# Altium schematic symbol library kmilo17pet-NSC_Amplifier.SchLib: 1665 symbols (part 27 of 44)
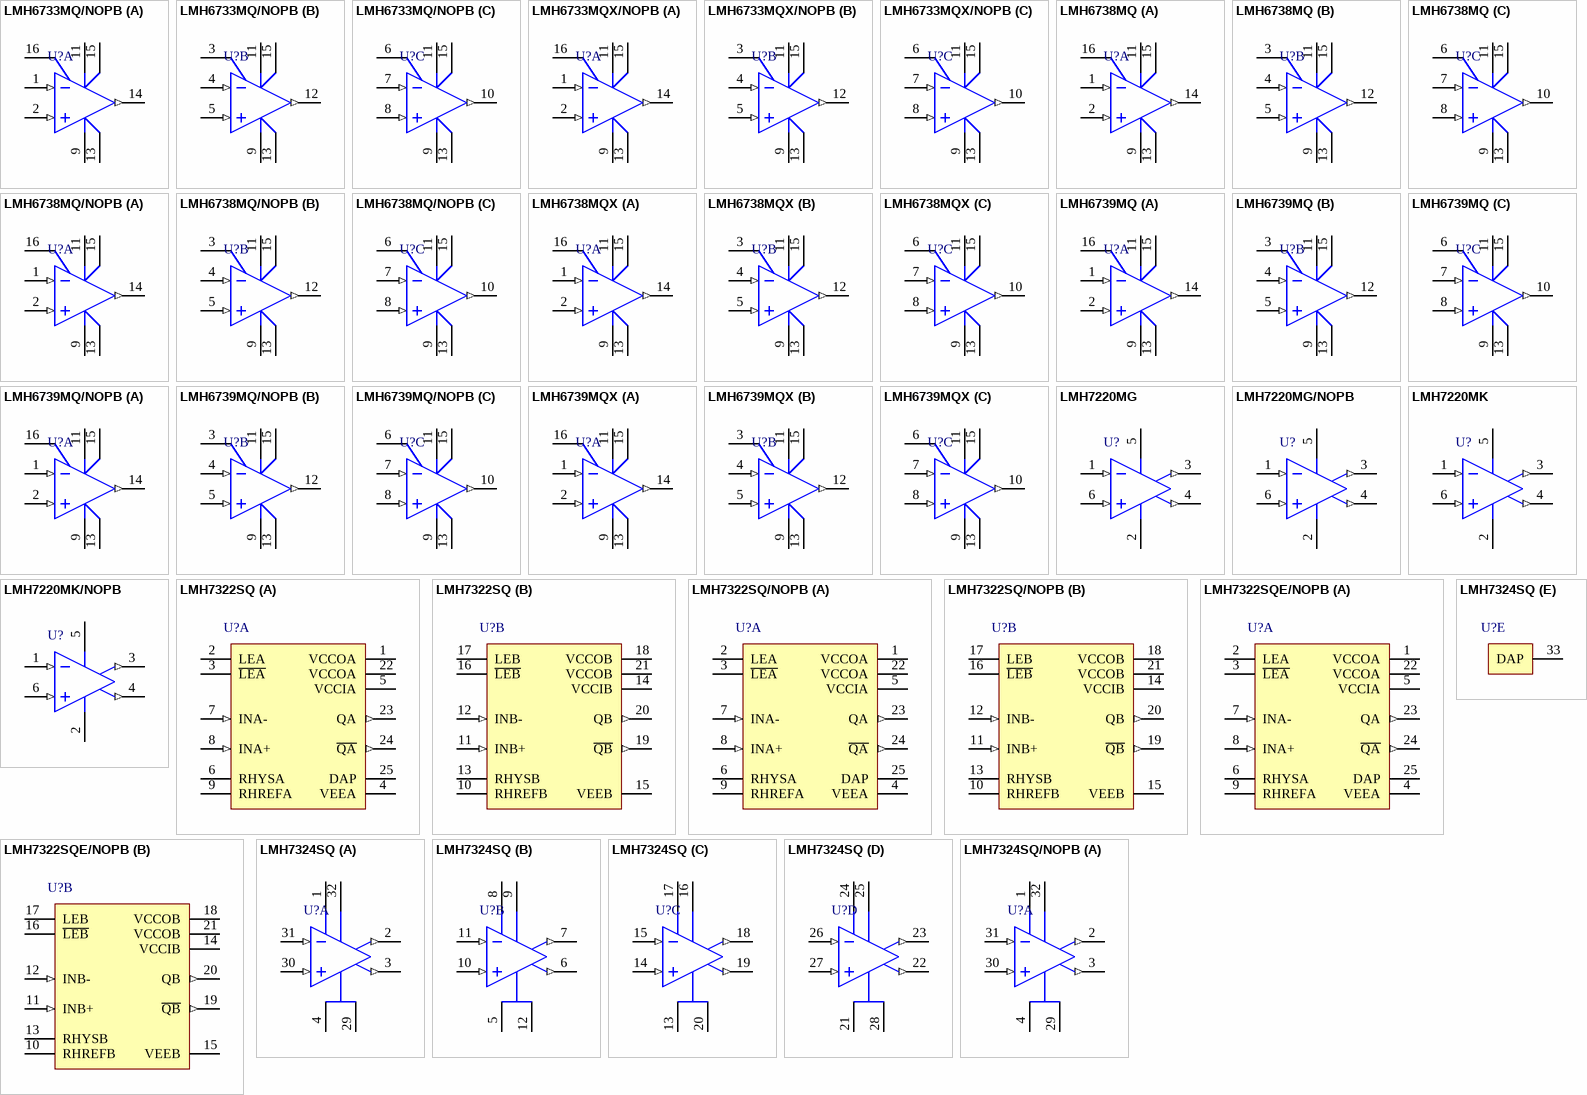
[diagram p110: symbols LMH6733MQ/NOPB to LMH7324SQ/NOPB]

## LMH7220MK/NOPB
designator U?
High Speed Comparator with LVDS Output, 6-pin Tiny SOT23, Pb-Free; PartNumber: LMH7220MK/NOPB; Manufacturer: National Semiconductor; PackageTopMarking: C29A*XTT; PowerWise: Y; CompType: Amplifiers; DatasheetVersion: May-2008; PackageVersion: revE, Nov-2008; PackageReference: MK06A; PackageDescription: Molded TSOT, 2.97 x 1.65 x 0.87mm Body, 6 Lead, 0.95mm Pitch; RoHS: Y; PinCount: 6; High-Reliability: Y; Code_JEDEC: MO-193-AA; Code_IPC: SOT26A-6; ComponentLink1Description: Manufacturer URL; ComponentLink1URL: http://www.national.com/; ComponentLink2Description: LMH7220 Datasheet; ComponentLink2URL: http://www.national.com/ds/LM/LMH7220.pdf; ComponentLink3Description: LMH7220 Web Page; ComponentLink3URL: http://www.national.com/pf/LM/LMH7220.html; ComponentLink4Description: MK06A Package Page; ComponentLink4URL: http://www.national.com/packaging/folders/mk06a.html
footprint MK06A_N (SOT23, 6-Leads, Body 3.0x1.7mm, Pitch 0.95mm, Lead Span 2.9mm, IPC Medium Density)
footprint MK06A_L (SOT23, 6-Leads, Body 3.0x1.7mm, Pitch 0.95mm, Lead Span 2.9mm, IPC High Density)
footprint MK06A_M (SOT23, 6-Leads, Body 3.0x1.7mm, Pitch 0.95mm, Lead Span 2.9mm, IPC Low Density)
pins: 1 IN- (in), 2 GND (power), 3 OUT ~{Q} (out), 4  OUT Q (out), 5 VCC (power), 6 IN+ (in)

## LMH7322SQ
designator U?
Dual 700 ps High Speed Comparator with RSPECL Outputs, 24-pin LLP; PartNumber: LMH7322SQ; Manufacturer: National Semiconductor; PackageTopMarking: NS*UZXYTT*L7322SQ; PowerWise: Y; CompType: Amplifiers; DatasheetVersion: May-2008; PackageVersion: revB, Aug-2003; PackageReference: SQA24A; PackageDescription: LLP, Plastic, Quad, 4 x 4 x 0.8mm Body, 24 Lead, 0.5mm Pitch, No Pullback; RoHS: Y; PinCount: 24; High-Reliability: Y; Code_JEDEC: MO-220-WGGD-6; ComponentLink1Description: Manufacturer URL; ComponentLink1URL: http://www.national.com/; ComponentLink2Description: LMH7322 Datasheet; ComponentLink2URL: http://www.national.com/ds/LM/LMH7322.pdf; ComponentLink3Description: LMH7322 Web Page; ComponentLink3URL: http://www.national.com/pf/LM/LMH7322.html; ComponentLink4Description: SQA24A Package Page; ComponentLink4URL: http://www.national.com/packaging/folders/sqa24a.html
footprint SQA24A (QFN, 24-Leads, Body 4x4mm, Pitch 0.5mm, Thermal Pad 2.7x2.7mm, NSC Recommended)
part A pins: 1 VCCOA (power), 2 LEA, 3 ~{LEA}, 4 VEEA (power), 5 VCCIA (power), 6 RHYSA, 7 INA- (in), 8 INA+ (in), 9 RHREFA, 22 VCCOA (power), 23 QA (out), 24 ~{QA} (out), 25 DAP (power)
part B pins: 10 RHREFB, 11 INB+ (in), 12 INB- (in), 13 RHYSB, 14 VCCIB (power), 15 VEEB (power), 16 ~{LEB}, 17 LEB, 18 VCCOB (power), 19 ~{QB} (out), 20 QB (out), 21 VCCOB (power)

## LMH7322SQ/NOPB
designator U?
Dual 700 ps High Speed Comparator with RSPECL Outputs, 24-pin LLP, Pb-Free; PartNumber: LMH7322SQ/NOPB; Manufacturer: National Semiconductor; PackageTopMarking: NS*UZXYTT*L7322SQ; PowerWise: Y; CompType: Amplifiers; DatasheetVersion: May-2008; PackageVersion: revB, Aug-2003; PackageReference: SQA24A; PackageDescription: LLP, Plastic, Quad, 4 x 4 x 0.8mm Body, 24 Lead, 0.5mm Pitch, No Pullback; RoHS: Y; PinCount: 24; High-Reliability: Y; Code_JEDEC: MO-220-WGGD-6; ComponentLink1Description: Manufacturer URL; ComponentLink1URL: http://www.national.com/; ComponentLink2Description: LMH7322 Datasheet; ComponentLink2URL: http://www.national.com/ds/LM/LMH7322.pdf; ComponentLink3Description: LMH7322 Web Page; ComponentLink3URL: http://www.national.com/pf/LM/LMH7322.html; ComponentLink4Description: SQA24A Package Page; ComponentLink4URL: http://www.national.com/packaging/folders/sqa24a.html
footprint SQA24A (QFN, 24-Leads, Body 4x4mm, Pitch 0.5mm, Thermal Pad 2.7x2.7mm, NSC Recommended)
part A pins: 1 VCCOA (power), 2 LEA, 3 ~{LEA}, 4 VEEA (power), 5 VCCIA (power), 6 RHYSA, 7 INA- (in), 8 INA+ (in), 9 RHREFA, 22 VCCOA (power), 23 QA (out), 24 ~{QA} (out), 25 DAP (power)
part B pins: 10 RHREFB, 11 INB+ (in), 12 INB- (in), 13 RHYSB, 14 VCCIB (power), 15 VEEB (power), 16 ~{LEB}, 17 LEB, 18 VCCOB (power), 19 ~{QB} (out), 20 QB (out), 21 VCCOB (power)

## LMH7322SQE/NOPB
designator U?
Dual 700 ps High Speed Comparator with RSPECL Outputs, 24-pin LLP, Pb-Free; PartNumber: LMH7322SQE/NOPB; Manufacturer: National Semiconductor; PackageTopMarking: NS*UZXYTT*L7322SQ; PowerWise: N; CompType: Amplifiers; High-Reliability: Y; DatasheetVersion: May-2008; PackageVersion: revB, Aug-2003; PackageReference: SQA24A; PackageDescription: LLP, Plastic, Quad, 4 x 4 x 0.8mm Body, 24 Lead, 0.5mm Pitch, No Pullback; RoHS: Y; PinCount: 24; Code_JEDEC: MO-220-WGGD-6; ComponentLink1Description: Manufacturer URL; ComponentLink1URL: http://www.national.com/; ComponentLink2Description: LMH7322 Datasheet; ComponentLink2URL: http://www.national.com/ds/LM/LMH7322.pdf; ComponentLink3Description: LMH7322 Web Page; ComponentLink3URL: http://www.national.com/pf/LM/LMH7322.html; ComponentLink4Description: SQA24A Package Page; ComponentLink4URL: http://www.national.com/packaging/folders/sqa24a.html
footprint SQA24A (QFN, 24-Leads, Body 4x4mm, Pitch 0.5mm, Thermal Pad 2.7x2.7mm, NSC Recommended)
part A pins: 1 VCCOA (power), 2 LEA, 3 ~{LEA}, 4 VEEA (power), 5 VCCIA (power), 6 RHYSA, 7 INA- (in), 8 INA+ (in), 9 RHREFA, 22 VCCOA (power), 23 QA (out), 24 ~{QA} (out), 25 DAP (power)
part B pins: 10 RHREFB, 11 INB+ (in), 12 INB- (in), 13 RHYSB, 14 VCCIB (power), 15 VEEB (power), 16 ~{LEB}, 17 LEB, 18 VCCOB (power), 19 ~{QB} (out), 20 QB (out), 21 VCCOB (power)

## LMH7324SQ
designator U?
Quad 700 ps High Speed Comparator with RSPECL Outputs, 32-pin LLP; PartNumber: LMH7324SQ; Manufacturer: National Semiconductor; PackageTopMarking: NS*UZXYTT*L7324SQ; PowerWise: Y; CompType: Amplifiers; DatasheetVersion: May-2008; PackageVersion: revB, Oct-2009; PackageReference: SQA32A; PackageDescription: LLP, Quad, 5 x 5 x 0.8mm, 32 Lead, 0.5mm Pitch, No Pullback 3.1 x 3.1 Exposed Pad; RoHS: Y; PinCount: 32; High-Reliability: Y; ComponentLink1Description: Manufacturer URL; ComponentLink1URL: http://www.national.com/; ComponentLink2Description: LMH7324 Datasheet; ComponentLink2URL: http://www.national.com/ds/LM/LMH7324.pdf; ComponentLink3Description: LMH7324 Web Page; ComponentLink3URL: http://www.national.com/pf/LM/LMH7324.html; ComponentLink4Description: SQA32A Package Page; ComponentLink4URL: http://www.national.com/packaging/folders/sqa32a.html
footprint SQA32A (QFN, 32-Leads, Body 5x5mm, Pitch 0.5mm, Thermal Pad 3.2x3.2mm, NSC Recommended)
part A pins: 1 VCCOA (power), 2 ~{QA} (out), 3 QA (out), 4 VEEA (power), 29 VEEA (power), 30 INA+ (in), 31 INA- (in), 32 VCCIA (power)
part B pins: 5 VEEB (power), 6 QB (out), 7 ~{QB} (out), 8 VCCOB (power), 9 VCCIB (power), 10 INB+ (in), 11 INB- (in), 12 VEEB (power)
part C pins: 13 VEEC (power), 14 INC+ (in), 15 INC- (in), 16 VCCIC (power), 17 VCCOC (power), 18 ~{QC} (out), 19 QC (out), 20 VEEC (power)
part D pins: 21 VEED (power), 22 QD (out), 23 ~{QD} (out), 24 VCCOD (power), 25 VCCID (power), 26 IND- (in), 27 IND+ (in), 28 VEED (power)
part E pins: 33 DAP

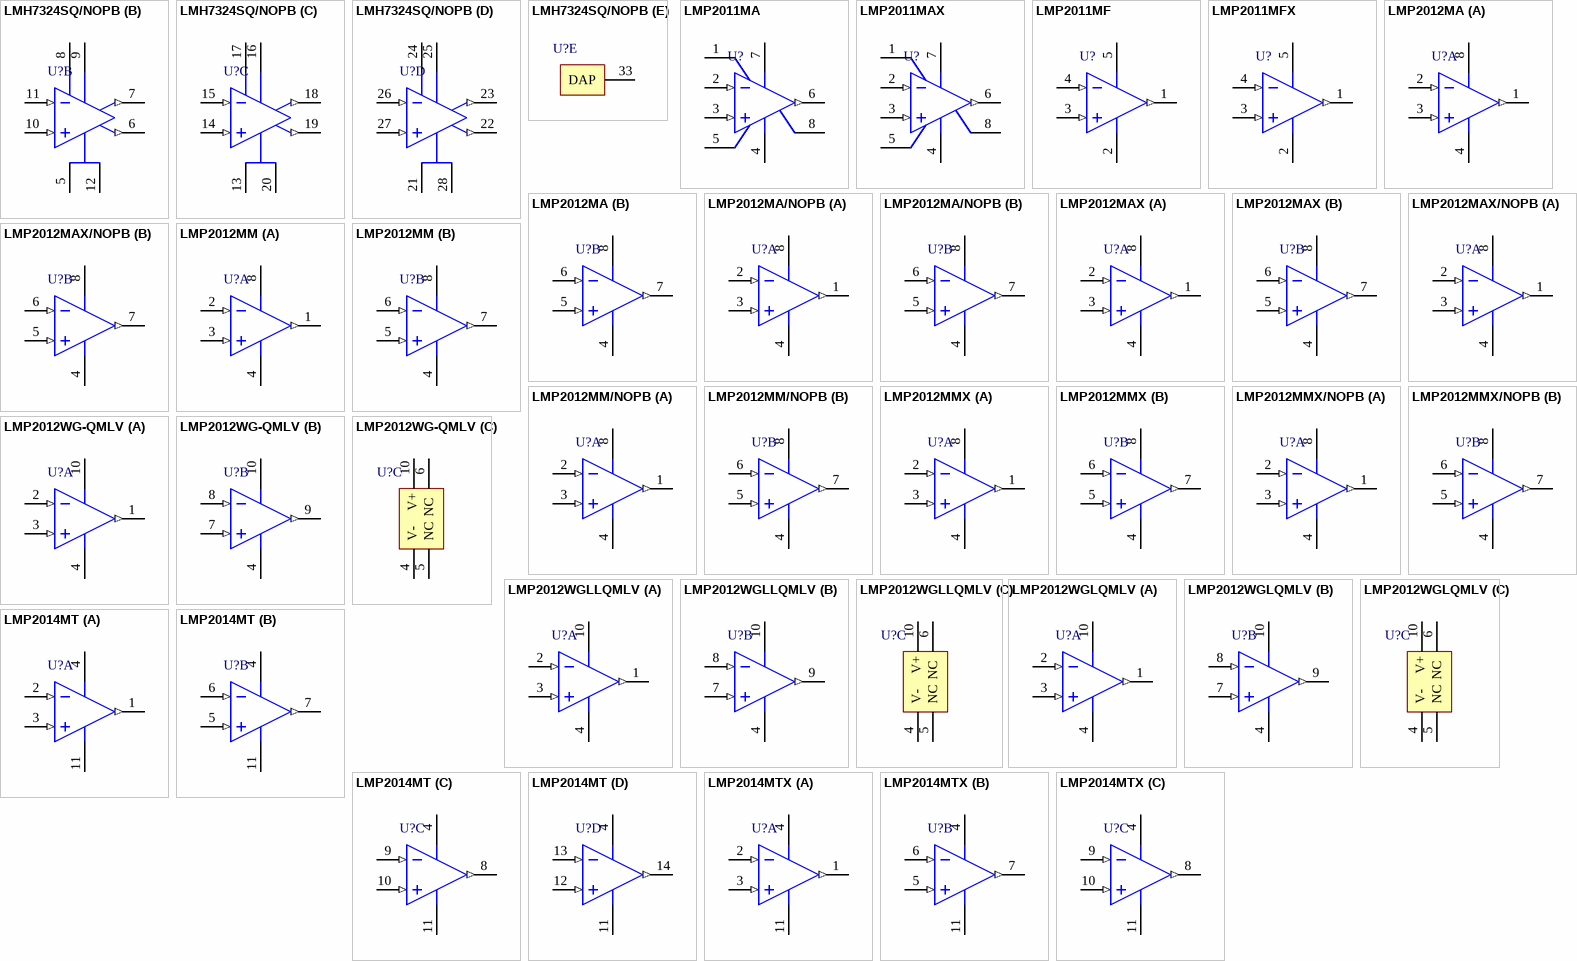
[diagram p54: symbols LMH7324SQ/NOPB to LMP2014MTX]

## LMH7324SQ/NOPB
designator U?
Quad 700 ps High Speed Comparator with RSPECL Outputs, 32-pin LLP, Pb-Free; PartNumber: LMH7324SQ/NOPB; Manufacturer: National Semiconductor; PackageTopMarking: NS*UZXYTT*L7324SQ; PowerWise: Y; CompType: Amplifiers; DatasheetVersion: May-2008; PackageVersion: revB, Oct-2009; PackageReference: SQA32A; PackageDescription: LLP, Quad, 5 x 5 x 0.8mm, 32 Lead, 0.5mm Pitch, No Pullback 3.1 x 3.1 Exposed Pad; RoHS: Y; PinCount: 32; High-Reliability: Y; ComponentLink1Description: Manufacturer URL; ComponentLink1URL: http://www.national.com/; ComponentLink2Description: LMH7324 Datasheet; ComponentLink2URL: http://www.national.com/ds/LM/LMH7324.pdf; ComponentLink3Description: LMH7324 Web Page; ComponentLink3URL: http://www.national.com/pf/LM/LMH7324.html; ComponentLink4Description: SQA32A Package Page; ComponentLink4URL: http://www.national.com/packaging/folders/sqa32a.html
footprint SQA32A (QFN, 32-Leads, Body 5x5mm, Pitch 0.5mm, Thermal Pad 3.2x3.2mm, NSC Recommended)
part A pins: 1 VCCOA (power), 2 ~{QA} (out), 3 QA (out), 4 VEEA (power), 29 VEEA (power), 30 INA+ (in), 31 INA- (in), 32 VCCIA (power)
part B pins: 5 VEEB (power), 6 QB (out), 7 ~{QB} (out), 8 VCCOB (power), 9 VCCIB (power), 10 INB+ (in), 11 INB- (in), 12 VEEB (power)
part C pins: 13 VEEC (power), 14 INC+ (in), 15 INC- (in), 16 VCCIC (power), 17 VCCOC (power), 18 ~{QC} (out), 19 QC (out), 20 VEEC (power)
part D pins: 21 VEED (power), 22 QD (out), 23 ~{QD} (out), 24 VCCOD (power), 25 VCCID (power), 26 IND- (in), 27 IND+ (in), 28 VEED (power)
part E pins: 33 DAP

## LMP2011MA
designator U?
Single, High Precision, Rail-to-Rail Output Operational Amplifier, 8-pin Narrow SOIC; PartNumber: LMP2011MA; Manufacturer: National Semiconductor; PackageTopMarking: NSZXTT*LMP20*11MA; PowerWise: N; CompType: Amplifiers; High-Reliability: Y; DatasheetVersion: Jul-2008; PackageVersion: revM, May-2009; PackageReference: M08A; PackageDescription: SOIC Narrow, 4.9 x 3.9 x 1.45mm, 8 Lead, 1.27mm Pitch; RoHS: N; PinCount: 8; Code_JEDEC: MS-012-AA; Code_IPC: SOIC127P600-8; ComponentLink1Description: Manufacturer URL; ComponentLink1URL: http://www.national.com/; ComponentLink2Description: LMP2011 Datasheet; ComponentLink2URL: http://www.national.com/ds/LM/LMP2011.pdf; ComponentLink3Description: LMP2011 Web Page; ComponentLink3URL: http://www.national.com/pf/LM/LMP2011.html; ComponentLink4Description: M08A Package Page; ComponentLink4URL: http://www.national.com/packaging/folders/m08a.html
footprint M08A_N (SOIC, 8-Leads, Body 4.9x3.9mm, Pitch 1.27mm, IPC Medium Density)
footprint M08A_L (SOIC, 8-Leads, Body 4.9x3.9mm, Pitch 1.27mm, IPC High Density)
footprint M08A_M (SOIC, 8-Leads, Body 4.9x3.9mm, Pitch 1.27mm, IPC Low Density)
pins: 1 NC, 2 IN- (in), 3 IN+ (in), 4 V- (power), 5 NC, 6 OUT (out), 7 V+ (power), 8 NC

## LMP2011MAX
designator U?
Single, High Precision, Rail-to-Rail Output Operational Amplifier, 8-pin Narrow SOIC; PartNumber: LMP2011MAX; Manufacturer: National Semiconductor; PackageTopMarking: NSZXTT*LMP20*11MA; PowerWise: N; CompType: Amplifiers; High-Reliability: Y; DatasheetVersion: Jul-2008; PackageVersion: revM, May-2009; PackageReference: M08A; PackageDescription: SOIC Narrow, 4.9 x 3.9 x 1.45mm, 8 Lead, 1.27mm Pitch; RoHS: N; PinCount: 8; Code_JEDEC: MS-012-AA; Code_IPC: SOIC127P600-8; ComponentLink1Description: Manufacturer URL; ComponentLink1URL: http://www.national.com/; ComponentLink2Description: LMP2011 Datasheet; ComponentLink2URL: http://www.national.com/ds/LM/LMP2011.pdf; ComponentLink3Description: LMP2011 Web Page; ComponentLink3URL: http://www.national.com/pf/LM/LMP2011.html; ComponentLink4Description: M08A Package Page; ComponentLink4URL: http://www.national.com/packaging/folders/m08a.html
footprint M08A_N (SOIC, 8-Leads, Body 4.9x3.9mm, Pitch 1.27mm, IPC Medium Density)
footprint M08A_L (SOIC, 8-Leads, Body 4.9x3.9mm, Pitch 1.27mm, IPC High Density)
footprint M08A_M (SOIC, 8-Leads, Body 4.9x3.9mm, Pitch 1.27mm, IPC Low Density)
pins: 1 NC, 2 IN- (in), 3 IN+ (in), 4 V- (power), 5 NC, 6 OUT (out), 7 V+ (power), 8 NC

## LMP2011MF
designator U?
Single, High Precision, Rail-to-Rail Output Operational Amplifier, 5-pin SOT-23; PartNumber: LMP2011MF; Manufacturer: National Semiconductor; PackageTopMarking: AN1A*XTT; PowerWise: N; CompType: Amplifiers; High-Reliability: Y; DatasheetVersion: Jul-2008; PackageVersion: revD, Aug-2008; PackageReference: MF05A; PackageDescription: Molded SOT-23, .115 x .063 x .040 in Body, 5 Lead, .0375 in Pitch; RoHS: N; PinCount: 5; ComponentLink1Description: Manufacturer URL; ComponentLink1URL: http://www.national.com/; ComponentLink2Description: LMP2011 Datasheet; ComponentLink2URL: http://www.national.com/ds/LM/LMP2011.pdf; ComponentLink3Description: LMP2011 Web Page; ComponentLink3URL: http://www.national.com/pf/LM/LMP2011.html; ComponentLink4Description: MF05A Package Page; ComponentLink4URL: http://www.national.com/packaging/folders/mf05a.html
footprint MF05A_N (SOT23, 5-Leads, Body 2.9x1.6mm, Pitch 0.95mm, Lead Span 2.8mm, IPC Medium Density)
footprint MF05A_L (SOT23, 5-Leads, Body 2.9x1.6mm, Pitch 0.95mm, Lead Span 2.8mm, IPC High Density)
footprint MF05A_M (SOT23, 5-Leads, Body 2.9x1.6mm, Pitch 0.95mm, Lead Span 2.8mm, IPC Low Density)
pins: 1 OUT (out), 2 V- (power), 3 IN+ (in), 4 IN- (in), 5 V+ (power)

## LMP2011MFX
designator U?
Single, High Precision, Rail-to-Rail Output Operational Amplifier, 5-pin SOT-23; PartNumber: LMP2011MFX; Manufacturer: National Semiconductor; PackageTopMarking: AN1A*XTT; PowerWise: N; CompType: Amplifiers; High-Reliability: Y; DatasheetVersion: Jul-2008; PackageVersion: revD, Aug-2008; PackageReference: MF05A; PackageDescription: Molded SOT-23, .115 x .063 x .040 in Body, 5 Lead, .0375 in Pitch; RoHS: N; PinCount: 5; ComponentLink1Description: Manufacturer URL; ComponentLink1URL: http://www.national.com/; ComponentLink2Description: LMP2011 Datasheet; ComponentLink2URL: http://www.national.com/ds/LM/LMP2011.pdf; ComponentLink3Description: LMP2011 Web Page; ComponentLink3URL: http://www.national.com/pf/LM/LMP2011.html; ComponentLink4Description: MF05A Package Page; ComponentLink4URL: http://www.national.com/packaging/folders/mf05a.html
footprint MF05A_N (SOT23, 5-Leads, Body 2.9x1.6mm, Pitch 0.95mm, Lead Span 2.8mm, IPC Medium Density)
footprint MF05A_L (SOT23, 5-Leads, Body 2.9x1.6mm, Pitch 0.95mm, Lead Span 2.8mm, IPC High Density)
footprint MF05A_M (SOT23, 5-Leads, Body 2.9x1.6mm, Pitch 0.95mm, Lead Span 2.8mm, IPC Low Density)
pins: 1 OUT (out), 2 V- (power), 3 IN+ (in), 4 IN- (in), 5 V+ (power)

## LMP2012MA
designator U?
Dual, High Precision, Rail-to-Rail Output Operational Amplifier, 8-pin Narrow SOIC; PartNumber: LMP2012MA; Manufacturer: National Semiconductor; PackageTopMarking: NSZXTT*LMP20*12MA; PowerWise: N; CompType: Amplifiers; High-Reliability: Y; DatasheetVersion: Jul-2008; PackageVersion: revM, May-2009; PackageReference: M08A; PackageDescription: SOIC Narrow, 4.9 x 3.9 x 1.45mm, 8 Lead, 1.27mm Pitch; RoHS: N; PinCount: 8; Code_JEDEC: MS-012-AA; Code_IPC: SOIC127P600-8; ComponentLink1Description: Manufacturer URL; ComponentLink1URL: http://www.national.com/; ComponentLink2Description: LMP2012 Datasheet; ComponentLink2URL: http://www.national.com/ds/LM/LMP2012.pdf; ComponentLink3Description: LMP2012 Web Page; ComponentLink3URL: http://www.national.com/pf/LM/LMP2012.html; ComponentLink4Description: M08A Package Page; ComponentLink4URL: http://www.national.com/packaging/folders/m08a.html
footprint M08A_N (SOIC, 8-Leads, Body 4.9x3.9mm, Pitch 1.27mm, IPC Medium Density)
footprint M08A_L (SOIC, 8-Leads, Body 4.9x3.9mm, Pitch 1.27mm, IPC High Density)
footprint M08A_M (SOIC, 8-Leads, Body 4.9x3.9mm, Pitch 1.27mm, IPC Low Density)
pins on every part: 4 V- (power), 8 V+ (power)
part A pins: 1 OUT1 (out), 2 IN1- (in), 3 IN1+ (in)
part B pins: 5 IN2+ (in), 6 IN2- (in), 7 OUT2 (out)

## LMP2012MA/NOPB
designator U?
Dual, High Precision, Rail-to-Rail Output Operational Amplifier, 8-pin Narrow SOIC, Pb-Free; PartNumber: LMP2012MA/NOPB; Manufacturer: National Semiconductor; PackageTopMarking: NSZXTT*LMP20*12MA; PowerWise: N; CompType: Amplifiers; High-Reliability: Y; DatasheetVersion: Jul-2008; PackageVersion: revM, May-2009; PackageReference: M08A; PackageDescription: SOIC Narrow, 4.9 x 3.9 x 1.45mm, 8 Lead, 1.27mm Pitch; RoHS: Y; PinCount: 8; Code_JEDEC: MS-012-AA; Code_IPC: SOIC127P600-8; ComponentLink1Description: Manufacturer URL; ComponentLink1URL: http://www.national.com/; ComponentLink2Description: LMP2012 Datasheet; ComponentLink2URL: http://www.national.com/ds/LM/LMP2012.pdf; ComponentLink3Description: LMP2012 Web Page; ComponentLink3URL: http://www.national.com/pf/LM/LMP2012.html; ComponentLink4Description: M08A Package Page; ComponentLink4URL: http://www.national.com/packaging/folders/m08a.html
footprint M08A_N (SOIC, 8-Leads, Body 4.9x3.9mm, Pitch 1.27mm, IPC Medium Density)
footprint M08A_L (SOIC, 8-Leads, Body 4.9x3.9mm, Pitch 1.27mm, IPC High Density)
footprint M08A_M (SOIC, 8-Leads, Body 4.9x3.9mm, Pitch 1.27mm, IPC Low Density)
pins on every part: 4 V- (power), 8 V+ (power)
part A pins: 1 OUT1 (out), 2 IN1- (in), 3 IN1+ (in)
part B pins: 5 IN2+ (in), 6 IN2- (in), 7 OUT2 (out)

## LMP2012MAX
designator U?
Dual, High Precision, Rail-to-Rail Output Operational Amplifier, 8-pin Narrow SOIC; PartNumber: LMP2012MAX; Manufacturer: National Semiconductor; PackageTopMarking: NSZXTT*LMP20*12MA; PowerWise: N; CompType: Amplifiers; High-Reliability: Y; DatasheetVersion: Jul-2008; PackageVersion: revM, May-2009; PackageReference: M08A; PackageDescription: SOIC Narrow, 4.9 x 3.9 x 1.45mm, 8 Lead, 1.27mm Pitch; RoHS: N; PinCount: 8; Code_JEDEC: MS-012-AA; Code_IPC: SOIC127P600-8; ComponentLink1Description: Manufacturer URL; ComponentLink1URL: http://www.national.com/; ComponentLink2Description: LMP2012 Datasheet; ComponentLink2URL: http://www.national.com/ds/LM/LMP2012.pdf; ComponentLink3Description: LMP2012 Web Page; ComponentLink3URL: http://www.national.com/pf/LM/LMP2012.html; ComponentLink4Description: M08A Package Page; ComponentLink4URL: http://www.national.com/packaging/folders/m08a.html
footprint M08A_N (SOIC, 8-Leads, Body 4.9x3.9mm, Pitch 1.27mm, IPC Medium Density)
footprint M08A_L (SOIC, 8-Leads, Body 4.9x3.9mm, Pitch 1.27mm, IPC High Density)
footprint M08A_M (SOIC, 8-Leads, Body 4.9x3.9mm, Pitch 1.27mm, IPC Low Density)
pins on every part: 4 V- (power), 8 V+ (power)
part A pins: 1 OUT1 (out), 2 IN1- (in), 3 IN1+ (in)
part B pins: 5 IN2+ (in), 6 IN2- (in), 7 OUT2 (out)

## LMP2012MAX/NOPB
designator U?
Dual, High Precision, Rail-to-Rail Output Operational Amplifier, 8-pin Narrow SOIC, Pb-Free; PartNumber: LMP2012MAX/NOPB; Manufacturer: National Semiconductor; PackageTopMarking: NSZXTT*LMP20*12MA; PowerWise: N; CompType: Amplifiers; High-Reliability: Y; DatasheetVersion: Jul-2008; PackageVersion: revM, May-2009; PackageReference: M08A; PackageDescription: SOIC Narrow, 4.9 x 3.9 x 1.45mm, 8 Lead, 1.27mm Pitch; RoHS: Y; PinCount: 8; Code_JEDEC: MS-012-AA; Code_IPC: SOIC127P600-8; ComponentLink1Description: Manufacturer URL; ComponentLink1URL: http://www.national.com/; ComponentLink2Description: LMP2012 Datasheet; ComponentLink2URL: http://www.national.com/ds/LM/LMP2012.pdf; ComponentLink3Description: LMP2012 Web Page; ComponentLink3URL: http://www.national.com/pf/LM/LMP2012.html; ComponentLink4Description: M08A Package Page; ComponentLink4URL: http://www.national.com/packaging/folders/m08a.html
footprint M08A_N (SOIC, 8-Leads, Body 4.9x3.9mm, Pitch 1.27mm, IPC Medium Density)
footprint M08A_L (SOIC, 8-Leads, Body 4.9x3.9mm, Pitch 1.27mm, IPC High Density)
footprint M08A_M (SOIC, 8-Leads, Body 4.9x3.9mm, Pitch 1.27mm, IPC Low Density)
pins on every part: 4 V- (power), 8 V+ (power)
part A pins: 1 OUT1 (out), 2 IN1- (in), 3 IN1+ (in)
part B pins: 5 IN2+ (in), 6 IN2- (in), 7 OUT2 (out)

## LMP2012MM
designator U?
Dual, High Precision, Rail-to-Rail Output Operational Amplifier, 8-pin Mini SOIC; PartNumber: LMP2012MM; Manufacturer: National Semiconductor; PackageTopMarking: ZXTT*AP1A; PowerWise: N; CompType: Amplifiers; High-Reliability: Y; DatasheetVersion: Jul-2008; PackageVersion: revF, Apr-2008; PackageReference: MUA08A; PackageDescription: MINI SOIC, .118 x .118 x .034in, 8 Lead, .0256in Pitch; RoHS: N; PinCount: 8; Code_JEDEC: MO-187-AA; ComponentLink1Description: Manufacturer URL; ComponentLink1URL: http://www.national.com/; ComponentLink2Description: LMP2012 Datasheet; ComponentLink2URL: http://www.national.com/ds/LM/LMP2012.pdf; ComponentLink3Description: LMP2012 Web Page; ComponentLink3URL: http://www.national.com/pf/LM/LMP2012.html; ComponentLink4Description: MUA08A Package Page; ComponentLink4URL: http://www.national.com/packaging/folders/mua08a.html
footprint MUA08A_N (TSOP, 8-Leads, Body 3x3mm, Pitch 0.65mm, IPC Medium Density)
footprint MUA08A_L (TSOP, 8-Leads, Body 3x3mm, Pitch 0.65mm, IPC High Density)
footprint MUA08A_M (TSOP, 8-Leads, Body 3x3mm, Pitch 0.65mm, IPC Low Density)
pins on every part: 4 V- (power), 8 V+ (power)
part A pins: 1 OUTA (out), 2 INA- (in), 3 INA+ (in)
part B pins: 5 INB+ (in), 6 INB- (in), 7 OUTB (out)

## LMP2012MM/NOPB
designator U?
Dual, High Precision, Rail-to-Rail Output Operational Amplifier, 8-pin Mini SOIC, Pb-Free; PartNumber: LMP2012MM/NOPB; Manufacturer: National Semiconductor; PackageTopMarking: ZXTT*AP1A; PowerWise: N; CompType: Amplifiers; High-Reliability: Y; DatasheetVersion: Jul-2008; PackageVersion: revF, Apr-2008; PackageReference: MUA08A; PackageDescription: MINI SOIC, .118 x .118 x .034in, 8 Lead, .0256in Pitch; RoHS: Y; PinCount: 8; Code_JEDEC: MO-187-AA; ComponentLink1Description: Manufacturer URL; ComponentLink1URL: http://www.national.com/; ComponentLink2Description: LMP2012 Datasheet; ComponentLink2URL: http://www.national.com/ds/LM/LMP2012.pdf; ComponentLink3Description: LMP2012 Web Page; ComponentLink3URL: http://www.national.com/pf/LM/LMP2012.html; ComponentLink4Description: MUA08A Package Page; ComponentLink4URL: http://www.national.com/packaging/folders/mua08a.html
footprint MUA08A_N (TSOP, 8-Leads, Body 3x3mm, Pitch 0.65mm, IPC Medium Density)
footprint MUA08A_L (TSOP, 8-Leads, Body 3x3mm, Pitch 0.65mm, IPC High Density)
footprint MUA08A_M (TSOP, 8-Leads, Body 3x3mm, Pitch 0.65mm, IPC Low Density)
pins on every part: 4 V- (power), 8 V+ (power)
part A pins: 1 OUTA (out), 2 INA- (in), 3 INA+ (in)
part B pins: 5 INB+ (in), 6 INB- (in), 7 OUTB (out)

## LMP2012MMX
designator U?
Dual, High Precision, Rail-to-Rail Output Operational Amplifier, 8-pin Mini SOIC; PartNumber: LMP2012MMX; Manufacturer: National Semiconductor; PackageTopMarking: ZXTT*AP1A; PowerWise: N; CompType: Amplifiers; High-Reliability: Y; DatasheetVersion: Jul-2008; PackageVersion: revF, Apr-2008; PackageReference: MUA08A; PackageDescription: MINI SOIC, .118 x .118 x .034in, 8 Lead, .0256in Pitch; RoHS: N; PinCount: 8; Code_JEDEC: MO-187-AA; ComponentLink1Description: Manufacturer URL; ComponentLink1URL: http://www.national.com/; ComponentLink2Description: LMP2012 Datasheet; ComponentLink2URL: http://www.national.com/ds/LM/LMP2012.pdf; ComponentLink3Description: LMP2012 Web Page; ComponentLink3URL: http://www.national.com/pf/LM/LMP2012.html; ComponentLink4Description: MUA08A Package Page; ComponentLink4URL: http://www.national.com/packaging/folders/mua08a.html
footprint MUA08A_N (TSOP, 8-Leads, Body 3x3mm, Pitch 0.65mm, IPC Medium Density)
footprint MUA08A_L (TSOP, 8-Leads, Body 3x3mm, Pitch 0.65mm, IPC High Density)
footprint MUA08A_M (TSOP, 8-Leads, Body 3x3mm, Pitch 0.65mm, IPC Low Density)
pins on every part: 4 V- (power), 8 V+ (power)
part A pins: 1 OUTA (out), 2 INA- (in), 3 INA+ (in)
part B pins: 5 INB+ (in), 6 INB- (in), 7 OUTB (out)

## LMP2012MMX/NOPB
designator U?
Dual, High Precision, Rail-to-Rail Output Operational Amplifier, 8-pin Mini SOIC, Pb-Free; PartNumber: LMP2012MMX/NOPB; Manufacturer: National Semiconductor; PackageTopMarking: ZXTT*AP1A; PowerWise: N; CompType: Amplifiers; High-Reliability: Y; DatasheetVersion: Jul-2008; PackageVersion: revF, Apr-2008; PackageReference: MUA08A; PackageDescription: MINI SOIC, .118 x .118 x .034in, 8 Lead, .0256in Pitch; RoHS: Y; PinCount: 8; Code_JEDEC: MO-187-AA; ComponentLink1Description: Manufacturer URL; ComponentLink1URL: http://www.national.com/; ComponentLink2Description: LMP2012 Datasheet; ComponentLink2URL: http://www.national.com/ds/LM/LMP2012.pdf; ComponentLink3Description: LMP2012 Web Page; ComponentLink3URL: http://www.national.com/pf/LM/LMP2012.html; ComponentLink4Description: MUA08A Package Page; ComponentLink4URL: http://www.national.com/packaging/folders/mua08a.html
footprint MUA08A_N (TSOP, 8-Leads, Body 3x3mm, Pitch 0.65mm, IPC Medium Density)
footprint MUA08A_L (TSOP, 8-Leads, Body 3x3mm, Pitch 0.65mm, IPC High Density)
footprint MUA08A_M (TSOP, 8-Leads, Body 3x3mm, Pitch 0.65mm, IPC Low Density)
pins on every part: 4 V- (power), 8 V+ (power)
part A pins: 1 OUTA (out), 2 INA- (in), 3 INA+ (in)
part B pins: 5 INB+ (in), 6 INB- (in), 7 OUTB (out)

## LMP2012WG-QMLV
designator U?
Dual, High Precision, Rail-to-Rail Output Operational Amplifier, 10-pin CerPACK; PartNumber: LMP2012WG-QMLV; Manufacturer: National Semiconductor; PackageTopMarking: NSZSSXXYY*A LMP2012*WG-QV Q*5962-06206*01VZA; PowerWise: N; CompType: Amplifiers; High-Reliability: Y; DatasheetVersion: Jun-2010; PackageVersion: revF, Oct-2008; PackageReference: WG10A; PackageDescription: Cerpack, .270 x .241 x .070in, 10 Lead, .050in Pitch, Gull Wing; RoHS: N; PinCount: 10; ComponentLink1Description: Manufacturer URL; ComponentLink1URL: http://www.national.com/; ComponentLink2Description: LMP2012QML Datasheet; ComponentLink2URL: http://www.national.com/ds/LM/LMP2012QML.pdf; ComponentLink3Description: LMP2012 Web Page; ComponentLink3URL: http://www.national.com/pf/LM/LMP2012.html; ComponentLink4Description: WG10A Package Page; ComponentLink4URL: http://www.national.com/packaging/folders/wg10a.html
footprint WG10A_N (CERPACK, 10-Leads, Body 6.9x6.3mm, Pitch 1.27mm, IPC Medium Density)
footprint WG10A_L (CERPACK, 10-Leads, Body 6.9x6.3mm, Pitch 1.27mm, IPC High Density)
footprint WG10A_M (CERPACK, 10-Leads, Body 6.9x6.3mm, Pitch 1.27mm, IPC Low Density)
pins on every part: 4 V- (power), 10 V+ (power)
part A pins: 1 OUTA (out), 2 INA- (in), 3 INA+ (in)
part B pins: 7 INB+ (in), 8 INB- (in), 9 OUTB (out)
part C pins: 5 NC, 6 NC

## LMP2012WGLLQMLV
designator U?
Dual, High Precision, Rail-to-Rail Output Operational Amplifier, 10-pin CERPACK; PartNumber: LMP2012WGLLQMLV; Manufacturer: National Semiconductor; PackageTopMarking: NSZSSXXYY*A LMP2012*WGLLQV Q*5962L06206*02VZA; PowerWise: N; CompType: Amplifiers; High-Reliability: Y; DatasheetVersion: Jun-2010; PackageVersion: revF, Oct-2008; PackageReference: WG10A; PackageDescription: Cerpack, .270 x .241 x .070in, 10 Lead, .050in Pitch, Gull Wing; RoHS: N; PinCount: 10; ComponentLink1Description: Manufacturer URL; ComponentLink1URL: http://www.national.com/; ComponentLink2Description: LMP2012 Datasheet; ComponentLink2URL: http://www.national.com/ds/LM/LMP2012QML.pdf; ComponentLink3Description: LMP2012 Web Page; ComponentLink3URL: http://www.national.com/pf/LM/LMP2012.html; ComponentLink4Description: WG10A Package Page; ComponentLink4URL: http://www.national.com/packaging/folders/wg10a.html
footprint WG10A_N (CERPACK, 10-Leads, Body 6.9x6.3mm, Pitch 1.27mm, IPC Medium Density)
footprint WG10A_L (CERPACK, 10-Leads, Body 6.9x6.3mm, Pitch 1.27mm, IPC High Density)
footprint WG10A_M (CERPACK, 10-Leads, Body 6.9x6.3mm, Pitch 1.27mm, IPC Low Density)
pins on every part: 4 V- (power), 10 V+ (power)
part A pins: 1 OUTA (out), 2 INA- (in), 3 INA+ (in)
part B pins: 7 INB+ (in), 8 INB- (in), 9 OUTB (out)
part C pins: 5 NC, 6 NC

## LMP2012WGLQMLV
designator U?
Dual, High Precision, Rail-to-Rail Output Operational Amplifier, 10-pin CerPACK; PartNumber: LMP2012WGLQMLV; Manufacturer: National Semiconductor; PackageTopMarking: NSZSSXXYY*A LMP2012*WGLQV Q*5962L06206*01VZA; PowerWise: N; CompType: Amplifiers; High-Reliability: Y; DatasheetVersion: Jun-2010; PackageVersion: revF, Oct-2008; PackageReference: WG10A; PackageDescription: Cerpack, .270 x .241 x .070in, 10 Lead, .050in Pitch, Gull Wing; RoHS: N; PinCount: 10; ComponentLink1Description: Manufacturer URL; ComponentLink1URL: http://www.national.com/; ComponentLink2Description: LMP2012 Datasheet; ComponentLink2URL: http://www.national.com/ds/LM/LMP2012QML.pdf; ComponentLink3Description: LMP2012 Web Page; ComponentLink3URL: http://www.national.com/pf/LM/LMP2012.html; ComponentLink4Description: WG10A Package Page; ComponentLink4URL: http://www.national.com/packaging/folders/wg10a.html
footprint WG10A_N (CERPACK, 10-Leads, Body 6.9x6.3mm, Pitch 1.27mm, IPC Medium Density)
footprint WG10A_L (CERPACK, 10-Leads, Body 6.9x6.3mm, Pitch 1.27mm, IPC High Density)
footprint WG10A_M (CERPACK, 10-Leads, Body 6.9x6.3mm, Pitch 1.27mm, IPC Low Density)
pins on every part: 4 V- (power), 10 V+ (power)
part A pins: 1 OUTA (out), 2 INA- (in), 3 INA+ (in)
part B pins: 7 INB+ (in), 8 INB- (in), 9 OUTB (out)
part C pins: 5 NC, 6 NC

## LMP2014MT
designator U?
Quad, High Precision, Rail-to-Rail Output Operational Amplifier, 14-pin TSSOP; PartNumber: LMP2014MT; Manufacturer: National Semiconductor; PackageTopMarking: NSUZXYTT*LMP20*14MT; PowerWise: N; CompType: Amplifiers; High-Reliability: Y; DatasheetVersion: Jul-2005; PackageVersion: revD, Jun-2003; PackageReference: MTC14; PackageDescription: Molded TSSOP, JEDEC, 5 x 4.4 x 0.9mm Body, 14 Lead, 0.65mm Pitch; RoHS: N; PinCount: 14; Code_JEDEC: MO-153-AB-1; ComponentLink1Description: Manufacturer URL; ComponentLink1URL: http://www.national.com/; ComponentLink2Description: LMP2014MT Datasheet; ComponentLink2URL: http://www.national.com/ds/LM/LMP2014MT.pdf; ComponentLink3Description: LMP2014MT Web Page; ComponentLink3URL: http://www.national.com/pf/LM/LMP2014MT.html; ComponentLink4Description: MTC14 Package Page; ComponentLink4URL: http://www.national.com/packaging/folders/mtc14.html
footprint MTC14_N (TSOP, 14-Leads, Body 5x4.4mm, Pitch 0.65mm, IPC Medium Density)
footprint MTC14_L (TSOP, 14-Leads, Body 5x4.4mm, Pitch 0.65mm, IPC High Density)
footprint MTC14_M (TSOP, 14-Leads, Body 5x4.4mm, Pitch 0.65mm, IPC Low Density)
pins on every part: 4 V+ (power), 11 V- (power)
part A pins: 1 OUTA (out), 2 INA- (in), 3 INA+ (in)
part B pins: 5 INB+ (in), 6 INB- (in), 7 OUTB (out)
part C pins: 8 OUTC (out), 9 INC- (in), 10 INC+ (in)
part D pins: 12 IND+ (in), 13 IND- (in), 14 OUTD (out)

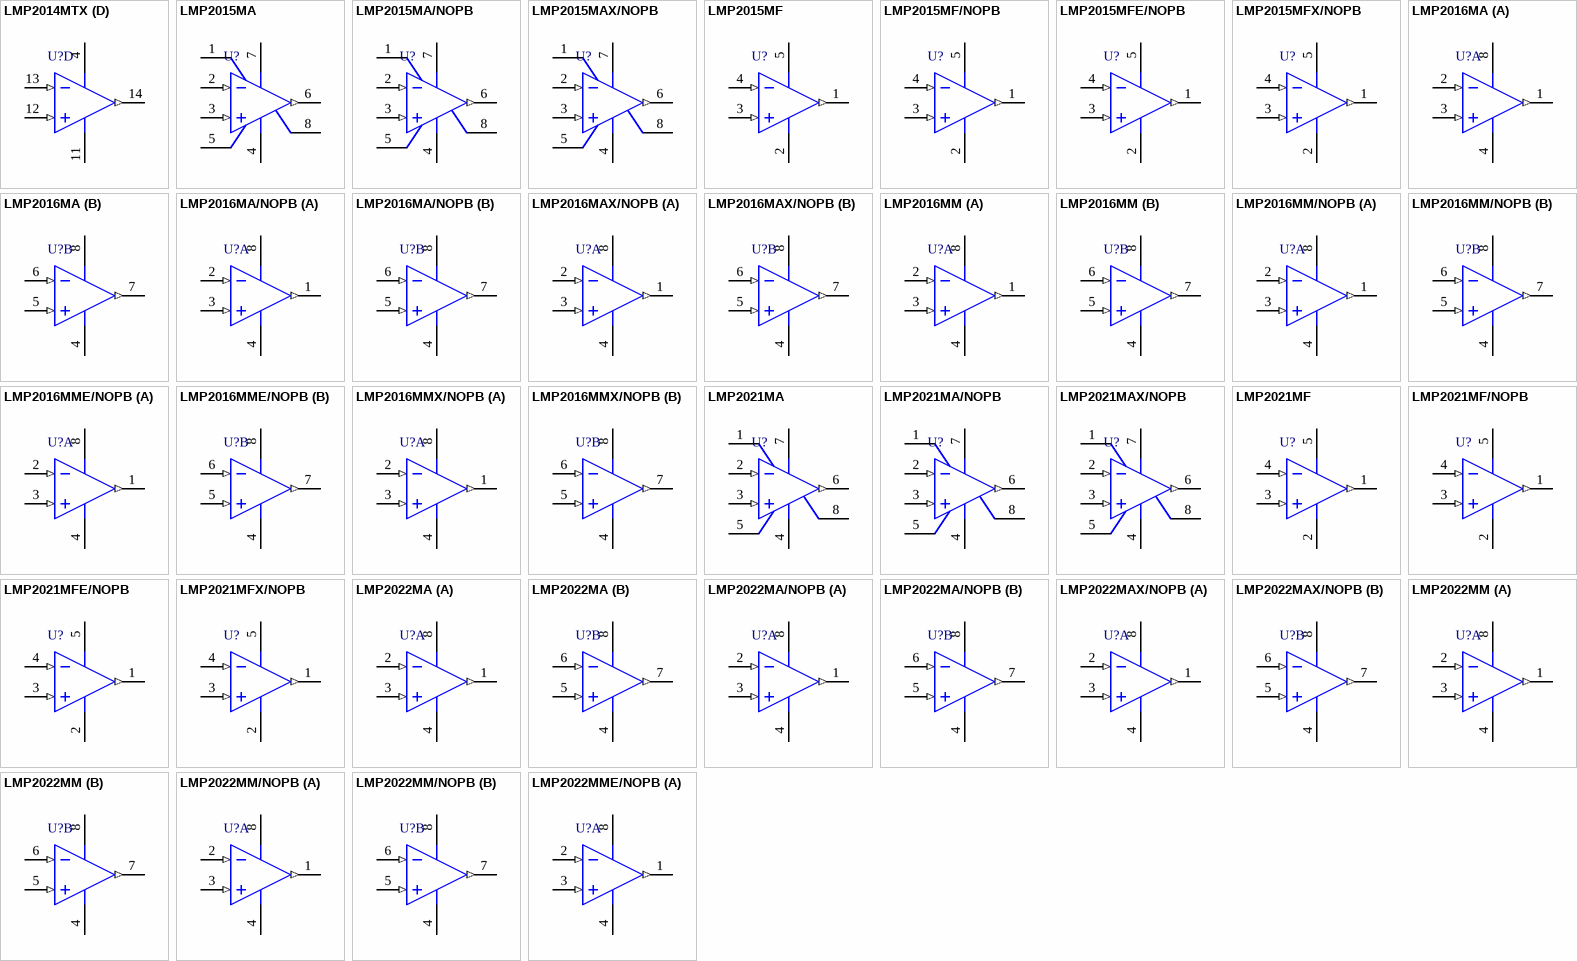
[diagram p55: symbols LMP2014MTX to LMP2022MME/NOPB]

## LMP2014MTX
designator U?
Quad, High Precision, Rail-to-Rail Output Operational Amplifier, 14-pin TSSOP; PartNumber: LMP2014MTX; Manufacturer: National Semiconductor; PackageTopMarking: NSUZXYTT*LMP20*14MT; PowerWise: N; CompType: Amplifiers; High-Reliability: Y; DatasheetVersion: Jul-2005; PackageVersion: revD, Jun-2003; PackageReference: MTC14; PackageDescription: Molded TSSOP, JEDEC, 5 x 4.4 x 0.9mm Body, 14 Lead, 0.65mm Pitch; RoHS: N; PinCount: 14; Code_JEDEC: MO-153-AB-1; ComponentLink1Description: Manufacturer URL; ComponentLink1URL: http://www.national.com/; ComponentLink2Description: LMP2014MT Datasheet; ComponentLink2URL: http://www.national.com/ds/LM/LMP2014MT.pdf; ComponentLink3Description: LMP2014MT Web Page; ComponentLink3URL: http://www.national.com/pf/LM/LMP2014MT.html; ComponentLink4Description: MTC14 Package Page; ComponentLink4URL: http://www.national.com/packaging/folders/mtc14.html
footprint MTC14_N (TSOP, 14-Leads, Body 5x4.4mm, Pitch 0.65mm, IPC Medium Density)
footprint MTC14_L (TSOP, 14-Leads, Body 5x4.4mm, Pitch 0.65mm, IPC High Density)
footprint MTC14_M (TSOP, 14-Leads, Body 5x4.4mm, Pitch 0.65mm, IPC Low Density)
pins on every part: 4 V+ (power), 11 V- (power)
part A pins: 1 OUTA (out), 2 INA- (in), 3 INA+ (in)
part B pins: 5 INB+ (in), 6 INB- (in), 7 OUTB (out)
part C pins: 8 OUTC (out), 9 INC- (in), 10 INC+ (in)
part D pins: 12 IND+ (in), 13 IND- (in), 14 OUTD (out)

## LMP2015MA
designator U?
Single, High Precision, Rail-to-Rail Output Operational Amplifier, 8-pin Narrow SOIC; PartNumber: LMP2015MA; Manufacturer: National Semiconductor; PackageTopMarking: NSZXTT*LMP20*15MA; PowerWise: N; CompType: Amplifiers; High-Reliability: Y; DatasheetVersion: Jan-2010; PackageVersion: revM, May-2009; PackageReference: M08A; PackageDescription: SOIC Narrow, 4.9 x 3.9 x 1.45mm, 8 Lead, 1.27mm Pitch; RoHS: Y; PinCount: 8; Code_JEDEC: MS-012-AA; Code_IPC: SOIC127P600-8; ComponentLink1Description: Manufacturer URL; ComponentLink1URL: http://www.national.com/; ComponentLink2Description: LMP2015 Datasheet; ComponentLink2URL: http://www.national.com/ds/LM/LMP2015.pdf; ComponentLink3Description: LMP2015 Web Page; ComponentLink3URL: http://www.national.com/pf/LM/LMP2015.html; ComponentLink4Description: M08A Package Page; ComponentLink4URL: http://www.national.com/packaging/folders/m08a.html
footprint M08A_N (SOIC, 8-Leads, Body 4.9x3.9mm, Pitch 1.27mm, IPC Medium Density)
footprint M08A_L (SOIC, 8-Leads, Body 4.9x3.9mm, Pitch 1.27mm, IPC High Density)
footprint M08A_M (SOIC, 8-Leads, Body 4.9x3.9mm, Pitch 1.27mm, IPC Low Density)
pins: 1 NC, 2 IN- (in), 3 IN+ (in), 4 V- (power), 5 NC, 6 OUT (out), 7 V+ (power), 8 NC

## LMP2015MA/NOPB
designator U?
Single, High Precision, Rail-to-Rail Output Operational Amplifier, 8-pin Narrow SOIC, Pb-Free; PartNumber: LMP2015MA/NOPB; Manufacturer: National Semiconductor; PackageTopMarking: NSZXTT*LMP20*15MA; PowerWise: N; CompType: Amplifiers; High-Reliability: Y; DatasheetVersion: Jan-2010; PackageVersion: revM, May-2009; PackageReference: M08A; PackageDescription: SOIC Narrow, 4.9 x 3.9 x 1.45mm, 8 Lead, 1.27mm Pitch; RoHS: Y; PinCount: 8; Code_JEDEC: MS-012-AA; Code_IPC: SOIC127P600-8; ComponentLink1Description: Manufacturer URL; ComponentLink1URL: http://www.national.com/; ComponentLink2Description: LMP2015 Datasheet; ComponentLink2URL: http://www.national.com/ds/LM/LMP2015.pdf; ComponentLink3Description: LMP2015 Web Page; ComponentLink3URL: http://www.national.com/pf/LM/LMP2015.html; ComponentLink4Description: M08A Package Page; ComponentLink4URL: http://www.national.com/packaging/folders/m08a.html
footprint M08A_N (SOIC, 8-Leads, Body 4.9x3.9mm, Pitch 1.27mm, IPC Medium Density)
footprint M08A_L (SOIC, 8-Leads, Body 4.9x3.9mm, Pitch 1.27mm, IPC High Density)
footprint M08A_M (SOIC, 8-Leads, Body 4.9x3.9mm, Pitch 1.27mm, IPC Low Density)
pins: 1 NC, 2 IN- (in), 3 IN+ (in), 4 V- (power), 5 NC, 6 OUT (out), 7 V+ (power), 8 NC

## LMP2015MAX/NOPB
designator U?
Single, High Precision, Rail-to-Rail Output Operational Amplifier, 8-pin Narrow SOIC, Pb-Free; PartNumber: LMP2015MAX/NOPB; Manufacturer: National Semiconductor; PackageTopMarking: NSZXTT*LMP20*15MA; PowerWise: N; CompType: Amplifiers; High-Reliability: Y; DatasheetVersion: Jan-2010; PackageVersion: revM, May-2009; PackageReference: M08A; PackageDescription: SOIC Narrow, 4.9 x 3.9 x 1.45mm, 8 Lead, 1.27mm Pitch; RoHS: Y; PinCount: 8; Code_JEDEC: MS-012-AA; Code_IPC: SOIC127P600-8; ComponentLink1Description: Manufacturer URL; ComponentLink1URL: http://www.national.com/; ComponentLink2Description: LMP2015 Datasheet; ComponentLink2URL: http://www.national.com/ds/LM/LMP2015.pdf; ComponentLink3Description: LMP2015 Web Page; ComponentLink3URL: http://www.national.com/pf/LM/LMP2015.html; ComponentLink4Description: M08A Package Page; ComponentLink4URL: http://www.national.com/packaging/folders/m08a.html
footprint M08A_N (SOIC, 8-Leads, Body 4.9x3.9mm, Pitch 1.27mm, IPC Medium Density)
footprint M08A_L (SOIC, 8-Leads, Body 4.9x3.9mm, Pitch 1.27mm, IPC High Density)
footprint M08A_M (SOIC, 8-Leads, Body 4.9x3.9mm, Pitch 1.27mm, IPC Low Density)
pins: 1 NC, 2 IN- (in), 3 IN+ (in), 4 V- (power), 5 NC, 6 OUT (out), 7 V+ (power), 8 NC

## LMP2015MF
designator U?
Single, High Precision, Rail-to-Rail Output Operational Amplifier, 5-pin SOT-23; PartNumber: LMP2015MF; Manufacturer: National Semiconductor; PackageTopMarking: AD5A*XTT; PowerWise: N; CompType: Amplifiers; High-Reliability: Y; DatasheetVersion: Jan-2010; PackageVersion: revD, Aug-2008; PackageReference: MF05A; PackageDescription: Molded SOT-23, .115 x .063 x .040 in Body, 5 Lead, .0375 in Pitch; RoHS: Y; PinCount: 5; ComponentLink1Description: Manufacturer URL; ComponentLink1URL: http://www.national.com/; ComponentLink2Description: LMP2015 Datasheet; ComponentLink2URL: http://www.national.com/ds/LM/LMP2015.pdf; ComponentLink3Description: LMP2015 Web Page; ComponentLink3URL: http://www.national.com/pf/LM/LMP2015.html; ComponentLink4Description: MF05A Package Page; ComponentLink4URL: http://www.national.com/packaging/folders/mf05a.html
footprint MF05A_N (SOT23, 5-Leads, Body 2.9x1.6mm, Pitch 0.95mm, Lead Span 2.8mm, IPC Medium Density)
footprint MF05A_L (SOT23, 5-Leads, Body 2.9x1.6mm, Pitch 0.95mm, Lead Span 2.8mm, IPC High Density)
footprint MF05A_M (SOT23, 5-Leads, Body 2.9x1.6mm, Pitch 0.95mm, Lead Span 2.8mm, IPC Low Density)
pins: 1 OUT (out), 2 V- (power), 3 IN+ (in), 4 IN- (in), 5 V+ (power)

## LMP2015MF/NOPB
designator U?
Single, High Precision, Rail-to-Rail Output Operational Amplifier, 5-pin SOT-23, Pb-Free; PartNumber: LMP2015MF/NOPB; Manufacturer: National Semiconductor; PackageTopMarking: AD5A*XTT; PowerWise: N; CompType: Amplifiers; High-Reliability: Y; DatasheetVersion: Jan-2010; PackageVersion: revD, Aug-2008; PackageReference: MF05A; PackageDescription: Molded SOT-23, .115 x .063 x .040 in Body, 5 Lead, .0375 in Pitch; RoHS: Y; PinCount: 5; ComponentLink1Description: Manufacturer URL; ComponentLink1URL: http://www.national.com/; ComponentLink2Description: LMP2015 Datasheet; ComponentLink2URL: http://www.national.com/ds/LM/LMP2015.pdf; ComponentLink3Description: LMP2015 Web Page; ComponentLink3URL: http://www.national.com/pf/LM/LMP2015.html; ComponentLink4Description: MF05A Package Page; ComponentLink4URL: http://www.national.com/packaging/folders/mf05a.html
footprint MF05A_N (SOT23, 5-Leads, Body 2.9x1.6mm, Pitch 0.95mm, Lead Span 2.8mm, IPC Medium Density)
footprint MF05A_L (SOT23, 5-Leads, Body 2.9x1.6mm, Pitch 0.95mm, Lead Span 2.8mm, IPC High Density)
footprint MF05A_M (SOT23, 5-Leads, Body 2.9x1.6mm, Pitch 0.95mm, Lead Span 2.8mm, IPC Low Density)
pins: 1 OUT (out), 2 V- (power), 3 IN+ (in), 4 IN- (in), 5 V+ (power)

## LMP2015MFE/NOPB
designator U?
Single, High Precision, Rail-to-Rail Output Operational Amplifier, 5-pin SOT-23, Pb-Free; PartNumber: LMP2015MFE/NOPB; Manufacturer: National Semiconductor; PackageTopMarking: AD5A*XTT; PowerWise: N; CompType: Amplifiers; High-Reliability: Y; DatasheetVersion: Jan-2010; PackageVersion: revD, Aug-2008; PackageReference: MF05A; PackageDescription: Molded SOT-23, .115 x .063 x .040 in Body, 5 Lead, .0375 in Pitch; RoHS: Y; PinCount: 5; ComponentLink1Description: Manufacturer URL; ComponentLink1URL: http://www.national.com/; ComponentLink2Description: LMP2015 Datasheet; ComponentLink2URL: http://www.national.com/ds/LM/LMP2015.pdf; ComponentLink3Description: LMP2015 Web Page; ComponentLink3URL: http://www.national.com/pf/LM/LMP2015.html; ComponentLink4Description: MF05A Package Page; ComponentLink4URL: http://www.national.com/packaging/folders/mf05a.html
footprint MF05A_N (SOT23, 5-Leads, Body 2.9x1.6mm, Pitch 0.95mm, Lead Span 2.8mm, IPC Medium Density)
footprint MF05A_L (SOT23, 5-Leads, Body 2.9x1.6mm, Pitch 0.95mm, Lead Span 2.8mm, IPC High Density)
footprint MF05A_M (SOT23, 5-Leads, Body 2.9x1.6mm, Pitch 0.95mm, Lead Span 2.8mm, IPC Low Density)
pins: 1 OUT (out), 2 V- (power), 3 IN+ (in), 4 IN- (in), 5 V+ (power)

## LMP2015MFX/NOPB
designator U?
Single, High Precision, Rail-to-Rail Output Operational Amplifier, 5-pin SOT-23, Pb-Free; PartNumber: LMP2015MFX/NOPB; Manufacturer: National Semiconductor; PackageTopMarking: AD5A*XTT; PowerWise: N; CompType: Amplifiers; High-Reliability: Y; DatasheetVersion: Jan-2010; PackageVersion: revD, Aug-2008; PackageReference: MF05A; PackageDescription: Molded SOT-23, .115 x .063 x .040 in Body, 5 Lead, .0375 in Pitch; RoHS: Y; PinCount: 5; ComponentLink1Description: Manufacturer URL; ComponentLink1URL: http://www.national.com/; ComponentLink2Description: LMP2015 Datasheet; ComponentLink2URL: http://www.national.com/ds/LM/LMP2015.pdf; ComponentLink3Description: LMP2015 Web Page; ComponentLink3URL: http://www.national.com/pf/LM/LMP2015.html; ComponentLink4Description: MF05A Package Page; ComponentLink4URL: http://www.national.com/packaging/folders/mf05a.html
footprint MF05A_N (SOT23, 5-Leads, Body 2.9x1.6mm, Pitch 0.95mm, Lead Span 2.8mm, IPC Medium Density)
footprint MF05A_L (SOT23, 5-Leads, Body 2.9x1.6mm, Pitch 0.95mm, Lead Span 2.8mm, IPC High Density)
footprint MF05A_M (SOT23, 5-Leads, Body 2.9x1.6mm, Pitch 0.95mm, Lead Span 2.8mm, IPC Low Density)
pins: 1 OUT (out), 2 V- (power), 3 IN+ (in), 4 IN- (in), 5 V+ (power)

## LMP2016MA
designator U?
High Precision, Rail-to-Rail Output Operational Amplifier, 8-pin Narrow SOIC; PartNumber: LMP2016MA; Manufacturer: National Semiconductor; PackageTopMarking: NSZXTT*LMP20*16MA; PowerWise: N; CompType: Amplifiers; High-Reliability: Y; DatasheetVersion: Jan-2010; PackageVersion: revM, May-2009; PackageReference: M08A; PackageDescription: SOIC Narrow, 4.9 x 3.9 x 1.45mm, 8 Lead, 1.27mm Pitch; RoHS: Y; PinCount: 8; Code_JEDEC: MS-012-AA; Code_IPC: SOIC127P600-8; ComponentLink1Description: Manufacturer URL; ComponentLink1URL: http://www.national.com/; ComponentLink2Description: LMP2016 Datasheet; ComponentLink2URL: http://www.national.com/ds/LM/LMP2016.pdf; ComponentLink3Description: LMP2016 Web Page; ComponentLink3URL: http://www.national.com/pf/LM/LMP2016.html; ComponentLink4Description: M08A Package Page; ComponentLink4URL: http://www.national.com/packaging/folders/m08a.html
footprint M08A_N (SOIC, 8-Leads, Body 4.9x3.9mm, Pitch 1.27mm, IPC Medium Density)
footprint M08A_L (SOIC, 8-Leads, Body 4.9x3.9mm, Pitch 1.27mm, IPC High Density)
footprint M08A_M (SOIC, 8-Leads, Body 4.9x3.9mm, Pitch 1.27mm, IPC Low Density)
pins on every part: 4 V- (power), 8 V+ (power)
part A pins: 1 OUT1 (out), 2 IN1- (in), 3 IN1+ (in)
part B pins: 5 IN2+ (in), 6 IN2- (in), 7 OUT2 (out)

## LMP2016MA/NOPB
designator U?
High Precision, Rail-to-Rail Output Operational Amplifier, 8-pin Narrow SOIC, Pb-Free; PartNumber: LMP2016MA/NOPB; Manufacturer: National Semiconductor; PackageTopMarking: NSZXTT*LMP20*16MA; PowerWise: N; CompType: Amplifiers; High-Reliability: Y; DatasheetVersion: Jan-2010; PackageVersion: revM, May-2009; PackageReference: M08A; PackageDescription: SOIC Narrow, 4.9 x 3.9 x 1.45mm, 8 Lead, 1.27mm Pitch; RoHS: Y; PinCount: 8; Code_JEDEC: MS-012-AA; Code_IPC: SOIC127P600-8; ComponentLink1Description: Manufacturer URL; ComponentLink1URL: http://www.national.com/; ComponentLink2Description: LMP2016 Datasheet; ComponentLink2URL: http://www.national.com/ds/LM/LMP2016.pdf; ComponentLink3Description: LMP2016 Web Page; ComponentLink3URL: http://www.national.com/pf/LM/LMP2016.html; ComponentLink4Description: M08A Package Page; ComponentLink4URL: http://www.national.com/packaging/folders/m08a.html
footprint M08A_N (SOIC, 8-Leads, Body 4.9x3.9mm, Pitch 1.27mm, IPC Medium Density)
footprint M08A_L (SOIC, 8-Leads, Body 4.9x3.9mm, Pitch 1.27mm, IPC High Density)
footprint M08A_M (SOIC, 8-Leads, Body 4.9x3.9mm, Pitch 1.27mm, IPC Low Density)
pins on every part: 4 V- (power), 8 V+ (power)
part A pins: 1 OUT1 (out), 2 IN1- (in), 3 IN1+ (in)
part B pins: 5 IN2+ (in), 6 IN2- (in), 7 OUT2 (out)

## LMP2016MAX/NOPB
designator U?
High Precision, Rail-to-Rail Output Operational Amplifier, 8-pin Narrow SOIC, Pb-Free; PartNumber: LMP2016MAX/NOPB; Manufacturer: National Semiconductor; PackageTopMarking: NSZXTT*LMP20*16MA; PowerWise: N; CompType: Amplifiers; High-Reliability: Y; DatasheetVersion: Jan-2010; PackageVersion: revM, May-2009; PackageReference: M08A; PackageDescription: SOIC Narrow, 4.9 x 3.9 x 1.45mm, 8 Lead, 1.27mm Pitch; RoHS: Y; PinCount: 8; Code_JEDEC: MS-012-AA; Code_IPC: SOIC127P600-8; ComponentLink1Description: Manufacturer URL; ComponentLink1URL: http://www.national.com/; ComponentLink2Description: LMP2016 Datasheet; ComponentLink2URL: http://www.national.com/ds/LM/LMP2016.pdf; ComponentLink3Description: LMP2016 Web Page; ComponentLink3URL: http://www.national.com/pf/LM/LMP2016.html; ComponentLink4Description: M08A Package Page; ComponentLink4URL: http://www.national.com/packaging/folders/m08a.html
footprint M08A_N (SOIC, 8-Leads, Body 4.9x3.9mm, Pitch 1.27mm, IPC Medium Density)
footprint M08A_L (SOIC, 8-Leads, Body 4.9x3.9mm, Pitch 1.27mm, IPC High Density)
footprint M08A_M (SOIC, 8-Leads, Body 4.9x3.9mm, Pitch 1.27mm, IPC Low Density)
pins on every part: 4 V- (power), 8 V+ (power)
part A pins: 1 OUT1 (out), 2 IN1- (in), 3 IN1+ (in)
part B pins: 5 IN2+ (in), 6 IN2- (in), 7 OUT2 (out)

## LMP2016MM
designator U?
Dual, High Precision, Rail-to-Rail Output Operational Amplifier, 8-pin Mini SOIC; PartNumber: LMP2016MM; Manufacturer: National Semiconductor; PackageTopMarking: ZXTT*AE5A; PowerWise: N; CompType: Amplifiers; High-Reliability: Y; DatasheetVersion: Jan-2010; PackageVersion: revF, Apr-2008; PackageReference: MUA08A; PackageDescription: MINI SOIC, .118 x .118 x .034in, 8 Lead, .0256in Pitch; RoHS: Y; PinCount: 8; Code_JEDEC: MO-187-AA; ComponentLink1Description: Manufacturer URL; ComponentLink1URL: http://www.national.com/; ComponentLink2Description: LMP2016 Datasheet; ComponentLink2URL: http://www.national.com/ds/LM/LMP2016.pdf; ComponentLink3Description: LMP2016 Web Page; ComponentLink3URL: http://www.national.com/pf/LM/LMP2016.html; ComponentLink4Description: MUA08A Package Page; ComponentLink4URL: http://www.national.com/packaging/folders/mua08a.html
footprint MUA08A_N (TSOP, 8-Leads, Body 3x3mm, Pitch 0.65mm, IPC Medium Density)
footprint MUA08A_L (TSOP, 8-Leads, Body 3x3mm, Pitch 0.65mm, IPC High Density)
footprint MUA08A_M (TSOP, 8-Leads, Body 3x3mm, Pitch 0.65mm, IPC Low Density)
pins on every part: 4 V- (power), 8 V+ (power)
part A pins: 1 OUTA (out), 2 INA- (in), 3 INA+ (in)
part B pins: 5 INB+ (in), 6 INB- (in), 7 OUTB (out)

## LMP2016MM/NOPB
designator U?
Dual, High Precision, Rail-to-Rail Output Operational Amplifier, 8-pin Mini SOIC, Pb-Free; PartNumber: LMP2016MM/NOPB; Manufacturer: National Semiconductor; PackageTopMarking: ZXTT*AE5A; PowerWise: N; CompType: Amplifiers; High-Reliability: Y; DatasheetVersion: Jan-2010; PackageVersion: revF, Apr-2008; PackageReference: MUA08A; PackageDescription: MINI SOIC, .118 x .118 x .034in, 8 Lead, .0256in Pitch; RoHS: Y; PinCount: 8; Code_JEDEC: MO-187-AA; ComponentLink1Description: Manufacturer URL; ComponentLink1URL: http://www.national.com/; ComponentLink2Description: LMP2016 Datasheet; ComponentLink2URL: http://www.national.com/ds/LM/LMP2016.pdf; ComponentLink3Description: LMP2016 Web Page; ComponentLink3URL: http://www.national.com/pf/LM/LMP2016.html; ComponentLink4Description: MUA08A Package Page; ComponentLink4URL: http://www.national.com/packaging/folders/mua08a.html
footprint MUA08A_N (TSOP, 8-Leads, Body 3x3mm, Pitch 0.65mm, IPC Medium Density)
footprint MUA08A_L (TSOP, 8-Leads, Body 3x3mm, Pitch 0.65mm, IPC High Density)
footprint MUA08A_M (TSOP, 8-Leads, Body 3x3mm, Pitch 0.65mm, IPC Low Density)
pins on every part: 4 V- (power), 8 V+ (power)
part A pins: 1 OUTA (out), 2 INA- (in), 3 INA+ (in)
part B pins: 5 INB+ (in), 6 INB- (in), 7 OUTB (out)

## LMP2016MME/NOPB
designator U?
Dual, High Precision, Rail-to-Rail Output Operational Amplifier, 8-pin Mini SOIC, Pb-Free; PartNumber: LMP2016MME/NOPB; Manufacturer: National Semiconductor; PackageTopMarking: ZXTT*AE5A; PowerWise: N; CompType: Amplifiers; High-Reliability: Y; DatasheetVersion: Jan-2010; PackageVersion: revF, Apr-2008; PackageReference: MUA08A; PackageDescription: MINI SOIC, .118 x .118 x .034in, 8 Lead, .0256in Pitch; RoHS: Y; PinCount: 8; Code_JEDEC: MO-187-AA; ComponentLink1Description: Manufacturer URL; ComponentLink1URL: http://www.national.com/; ComponentLink2Description: LMP2016 Datasheet; ComponentLink2URL: http://www.national.com/ds/LM/LMP2016.pdf; ComponentLink3Description: LMP2016 Web Page; ComponentLink3URL: http://www.national.com/pf/LM/LMP2016.html; ComponentLink4Description: MUA08A Package Page; ComponentLink4URL: http://www.national.com/packaging/folders/mua08a.html
footprint MUA08A_N (TSOP, 8-Leads, Body 3x3mm, Pitch 0.65mm, IPC Medium Density)
footprint MUA08A_L (TSOP, 8-Leads, Body 3x3mm, Pitch 0.65mm, IPC High Density)
footprint MUA08A_M (TSOP, 8-Leads, Body 3x3mm, Pitch 0.65mm, IPC Low Density)
pins on every part: 4 V- (power), 8 V+ (power)
part A pins: 1 OUTA (out), 2 INA- (in), 3 INA+ (in)
part B pins: 5 INB+ (in), 6 INB- (in), 7 OUTB (out)

## LMP2016MMX/NOPB
designator U?
Dual, High Precision, Rail-to-Rail Output Operational Amplifier, 8-pin Mini SOIC, Pb-Free; PartNumber: LMP2016MMX/NOPB; Manufacturer: National Semiconductor; PackageTopMarking: ZXTT*AE5A; PowerWise: N; CompType: Amplifiers; High-Reliability: Y; DatasheetVersion: Jan-2010; PackageVersion: revF, Apr-2008; PackageReference: MUA08A; PackageDescription: MINI SOIC, .118 x .118 x .034in, 8 Lead, .0256in Pitch; RoHS: Y; PinCount: 8; Code_JEDEC: MO-187-AA; ComponentLink1Description: Manufacturer URL; ComponentLink1URL: http://www.national.com/; ComponentLink2Description: LMP2016 Datasheet; ComponentLink2URL: http://www.national.com/ds/LM/LMP2016.pdf; ComponentLink3Description: LMP2016 Web Page; ComponentLink3URL: http://www.national.com/pf/LM/LMP2016.html; ComponentLink4Description: MUA08A Package Page; ComponentLink4URL: http://www.national.com/packaging/folders/mua08a.html
footprint MUA08A_N (TSOP, 8-Leads, Body 3x3mm, Pitch 0.65mm, IPC Medium Density)
footprint MUA08A_L (TSOP, 8-Leads, Body 3x3mm, Pitch 0.65mm, IPC High Density)
footprint MUA08A_M (TSOP, 8-Leads, Body 3x3mm, Pitch 0.65mm, IPC Low Density)
pins on every part: 4 V- (power), 8 V+ (power)
part A pins: 1 OUTA (out), 2 INA- (in), 3 INA+ (in)
part B pins: 5 INB+ (in), 6 INB- (in), 7 OUTB (out)